# Altium footprint library MergenElektronik_Sensors_CurrentSensors.PcbLib: 1 footprints
Each footprint in its own frame and in the unit in brackets; x right, y up, seen from the top. Pads: shape width x height; smd on the part's side, far side on the other; paste and mask are expansions set on the pad; w line width, h text height; cw(c..) or ccw(c..) is an arc to the next point about the centre after c.
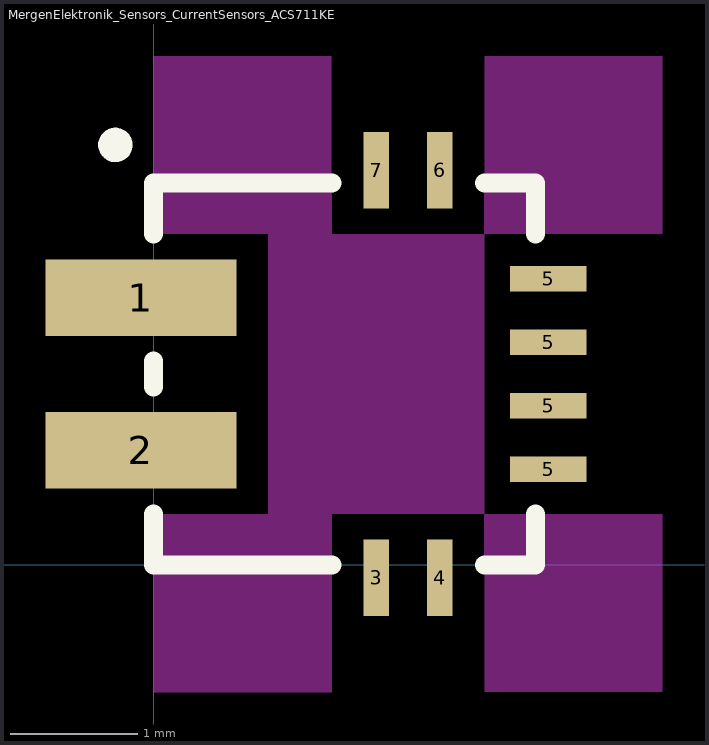
[diagram p0: the footprint, top view; thin cyan lines are the x and y axes]

## MergenElektronik_Sensors_CurrentSensors_ACS711KEXLT-31AB-T [mm] "ACS711KEXLT-31AB-T"
pads (10):
  rect 1.5x0.6 smd: 1(-0.1,2.1) 2(-0.1,0.9)
  rect 0.2x0.6 smd: 3(1.75,-0.1) 4(2.25,-0.1) 6(2.25,3.1) 7(1.75,3.1)
  rect 0.6x0.2 smd: 5(3.1,0.75) 5(3.1,1.25) 5(3.1,1.75) 5(3.1,2.25)
Top Overlay:
  circle w0.15: c-0.3,3.3 r0.06
  lines w0.15: 0,0.4 0,0 1.4,0 ; 0,1.4 0,1.6 ; 0,2.6 0,3 1.4,3 ; 2.6,0 3,0 3,0.4 ; 2.6,3 3,3 3,2.6
Keep-Out Layer:
  rectangle: 2.6,-1 3.5,-0.5
  rectangle: 2.6,-0.5 3.5,0
  rectangle: 3,0 3.5,0.4
  rectangle: 3,2.6 3.5,3
  rectangle: 2.6,3 3.5,3.5
  rectangle: 0,3 1.4,4
  rectangle: 3.5,2.6 4,3.5
  rectangle: 2.6,3.5 4,4
  rectangle: 3.5,-1 4,0.4
  region: 0,0.396 0.9,0.396 0.9,2.6 0,2.6 0,3 1.4,3 1.4,2.6 2.6,2.599 2.6,3 3,3 3,2.6 2.6,2.6 2.6,1.976 2.6,0.396 3,0.396 3,0 2.6,0 2.6,0.404 1.4,0.396 1.4,-1 0,-1
3D body "ACS711KEXLT-15AB-T.step": height 0.8, standoff 0, extent 0,0 3,3